# EAGLE library part TINY28* (library Railstars)
MICROCONTROLLER 1.8 V 2 Kbytes FLASH
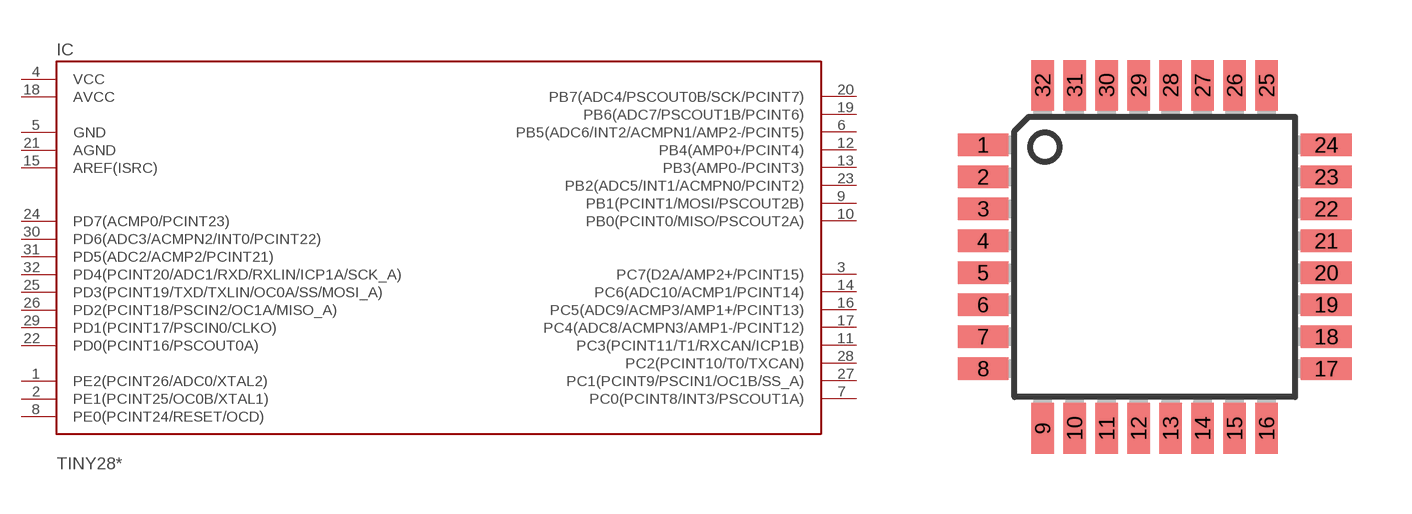
[diagram p30: symbol with the pads of TQFP32-08; footprint TQFP32-08]

Designator prefix IC

## TINY28LA (OC_FARNELL: unknown; OC_NEWARK: unknown), TINY28VA (OC_FARNELL: unknown; OC_NEWARK: unknown)  [TQFP32-08]
1  PE2(PCINT26/ADC0/XTAL2)
2  PE1(PCINT25/OC0B/XTAL1)
3  PC7(D2A/AMP2+/PCINT15)  nc
4  VCC  pwr
5  GND  pwr
6  PB5(ADC6/INT2/ACMPN1/AMP2-/PCINT5)  nc
7  PC0(PCINT8/INT3/PSCOUT1A)
8  PE0(PCINT24/RESET/OCD)
9  PB1(PCINT1/MOSI/PSCOUT2B)
10  PB0(PCINT0/MISO/PSCOUT2A)
11  PC3(PCINT11/T1/RXCAN/ICP1B)
12  PB4(AMP0+/PCINT4)  in
13  PB3(AMP0-/PCINT3)  in
14  PC6(ADC10/ACMP1/PCINT14)  in
15  AREF(ISRC)  in
16  PC5(ADC9/ACMP3/AMP1+/PCINT13)  in
17  PC4(ADC8/ACMPN3/AMP1-/PCINT12)  in
18  AVCC  pwr
19  PB6(ADC7/PSCOUT1B/PCINT6)  nc
20  PB7(ADC4/PSCOUT0B/SCK/PCINT7)  nc
21  AGND  pwr
22  PD0(PCINT16/PSCOUT0A)  nc
23  PB2(ADC5/INT1/ACMPN0/PCINT2)  in
24  PD7(ACMP0/PCINT23)  in
25  PD3(PCINT19/TXD/TXLIN/OC0A/SS/MOSI_A)  out
26  PD2(PCINT18/PSCIN2/OC1A/MISO_A)
27  PC1(PCINT9/PSCIN1/OC1B/SS_A)
28  PC2(PCINT10/T0/TXCAN)
29  PD1(PCINT17/PSCIN0/CLKO)
30  PD6(ADC3/ACMPN2/INT0/PCINT22)
31  PD5(ADC2/ACMP2/PCINT21)
32  PD4(PCINT20/ADC1/RXD/RXLIN/ICP1A/SCK_A)

## Footprint TQFP32-08 (pad centres in mm)
Thin Plasic Quad Flat Package Grid 0.8 mm
smd 1.27 x 0.559: 1 -4.293,2.8; 2 -4.293,2; 3 -4.293,1.2; 4 -4.293,0.4; 5 -4.293,-0.4; 6 -4.293,-1.2; 7 -4.293,-2; 8 -4.293,-2.8; 17 4.293,-2.8; 18 4.293,-2; 19 4.293,-1.2; 20 4.293,-0.4; 21 4.293,0.4; 22 4.293,1.2; 23 4.293,2; 24 4.293,2.8
smd 0.559 x 1.27: 9 -2.8,-4.293; 10 -2,-4.293; 11 -1.2,-4.293; 12 -0.4,-4.293; 13 0.4,-4.293; 14 1.2,-4.293; 15 2,-4.293; 16 2.8,-4.293; 25 2.8,4.293; 26 2,4.293; 27 1.2,4.293; 28 0.4,4.293; 29 -0.4,4.293; 30 -1.2,4.293; 31 -2,4.293; 32 -2.8,4.293